# Altium integrated library 2717.IntLib: 1 symbol
Pins are listed as number, name and electrical type; pins without a type are passive.

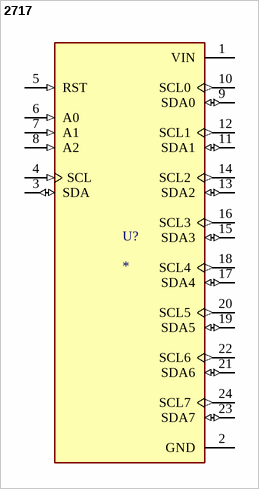
[diagram p0: symbol 2717]

## 2717
designator U?
Module: multiplexer; I2C interface multiplexer; TCA9548A; 3Ã·5VDC; MF: Adafruit; MP: 2717; SnapEDA_Link: https://www.snapeda.com/parts/2717/Adafruit+Industries+LLC/view-part/?ref=snap; Availability: In Stock; Purchase-URL: https://pricing.snapeda.com/search/part/2717/?ref=eda; Check_prices: https://www.snapeda.com/parts/2717/Adafruit+Industries+LLC/view-part/?ref=eda; Value: *; Package: None; Price: None
footprint MODULE_2717
pins: 1 VIN (power), 2 GND (power), 3 SDA (io), 4 SCL (in), 5 RST (in), 6 A0 (in), 7 A1 (in), 8 A2 (in), 9 SDA0 (io), 10 SCL0 (out), 11 SDA1 (io), 12 SCL1 (out), 13 SDA2 (io), 14 SCL2 (out), 15 SDA3 (io), 16 SCL3 (out), 17 SDA4 (io), 18 SCL4 (out), 19 SDA5 (io), 20 SCL5 (out), 21 SDA6 (io), 22 SCL6 (out), 23 SDA7 (io), 24 SCL7 (out)